# Altium schematic symbol library WE-LHMI.SchLib: 193 symbols (part 4 of 4)
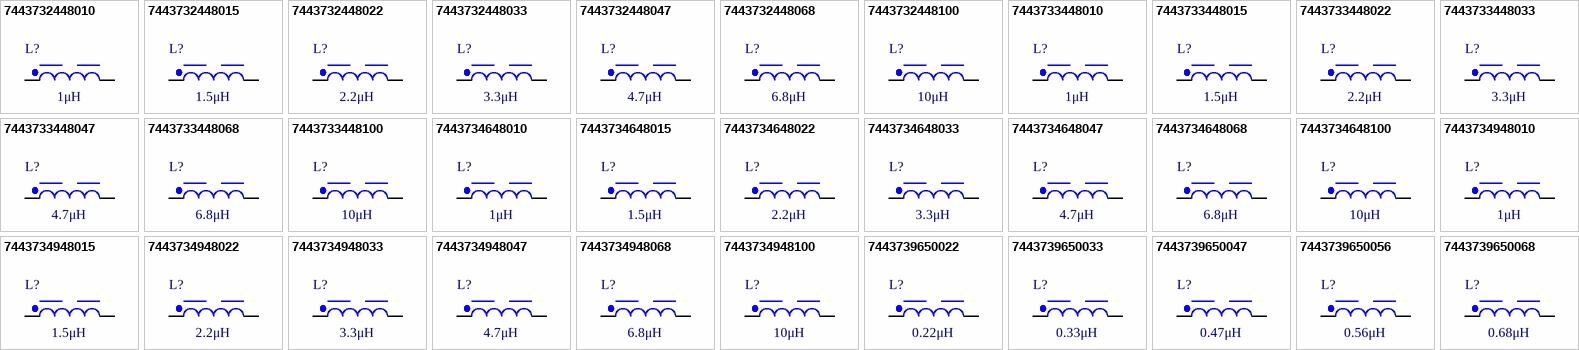
[diagram p7: symbols 7443732448010 to 7443739650068]

## 7443732448100
designator L?, comment 10μH
WE-LHMI SMT Power Inductor, size 4020 HT, 10μH, 2.4A, 243mΩ; Manufacturer Part Number: 7443732448100; Manufacturer: Wurth Elektronik; Case/Size Code: 4020 HT; Saturation Current @ 10%: 1A; Self Resonant Frequency: 16MHz; Category: Power Inductors; Match Code: WE-LHMI; ComponentLink1Description: Website Link; ComponentLink1URL: https://www.we-online.com/redexpert/article/7443732448100?ad; ComponentLink2Description: Datasheet Link; ComponentLink2URL: https://www.we-online.com/redexpert/spec/7443732448100?ad; Mount: Surface Mount; Min Operating Temperature: -55°C; Max Operating Temperature: 150°C; Packaging: Tape and Reel; Length: 4.45mm; Width: 4.06mm; Height: 1.8mm; DC Resistance Max: 243mΩ; Inductance: 10μH; Performance Rated Current: 2.4A; Saturation Current @ 30%: 2.4A
footprint WE-LHMI_4020 HT
simulation model 4020HT_7443732448100_10u
pins: 1, 2

## 7443733448010
designator L?, comment 1μH
WE-LHMI SMT Power Inductor, size 5020 HT, 1μH, 9.5A, 17.5mΩ; Manufacturer Part Number: 7443733448010; Manufacturer: Wurth Elektronik; Case/Size Code: 5020 HT; Saturation Current @ 10%: 5.4A; Saturation Current @ 30%: 12A; Self Resonant Frequency: 62MHz; Category: Power Inductors; Match Code: WE-LHMI; ComponentLink1Description: Website Link; ComponentLink1URL: https://www.we-online.com/redexpert/article/7443733448010?ad; ComponentLink2Description: Datasheet Link; ComponentLink2URL: https://www.we-online.com/redexpert/spec/7443733448010?ad; Mount: Surface Mount; Min Operating Temperature: -55°C; Max Operating Temperature: 150°C; Packaging: Tape and Reel; Length: 5.7mm; Width: 5.2mm; Height: 1.8mm; DC Resistance Max: 17.5mΩ; Inductance: 1μH; Performance Rated Current: 9.5A
footprint WE-LHMI_5020 HT
simulation model 5020HT_7443733448010_1u
pins: 1, 2

## 7443733448015
designator L?, comment 1.5μH
WE-LHMI SMT Power Inductor, size 5020 HT, 1.5μH, 5.7A, 43mΩ; Manufacturer Part Number: 7443733448015; Manufacturer: Wurth Elektronik; Case/Size Code: 5020 HT; Saturation Current @ 10%: 4.2A; Saturation Current @ 30%: 9.5A; Self Resonant Frequency: 54MHz; Category: Power Inductors; Match Code: WE-LHMI; ComponentLink1Description: Website Link; ComponentLink1URL: https://www.we-online.com/redexpert/article/7443733448015?ad; ComponentLink2Description: Datasheet Link; ComponentLink2URL: https://www.we-online.com/redexpert/spec/7443733448015?ad; Mount: Surface Mount; Min Operating Temperature: -55°C; Max Operating Temperature: 150°C; Packaging: Tape and Reel; Length: 5.7mm; Width: 5.2mm; Height: 1.8mm; DC Resistance Max: 43mΩ; Inductance: 1.5μH; Performance Rated Current: 5.7A
footprint WE-LHMI_5020 HT
simulation model 5020HT_7443733448015_1.5u
pins: 1, 2

## 7443733448022
designator L?, comment 2.2μH
WE-LHMI SMT Power Inductor, size 5020 HT, 2.2μH, 6A, 38mΩ; Manufacturer Part Number: 7443733448022; Manufacturer: Wurth Elektronik; Case/Size Code: 5020 HT; Saturation Current @ 10%: 3A; Saturation Current @ 30%: 6.7A; Self Resonant Frequency: 40MHz; Category: Power Inductors; Match Code: WE-LHMI; ComponentLink1Description: Website Link; ComponentLink1URL: https://www.we-online.com/redexpert/article/7443733448022?ad; ComponentLink2Description: Datasheet Link; ComponentLink2URL: https://www.we-online.com/redexpert/spec/7443733448022?ad; Mount: Surface Mount; Min Operating Temperature: -55°C; Max Operating Temperature: 150°C; Packaging: Tape and Reel; Length: 5.7mm; Width: 5.2mm; Height: 1.8mm; DC Resistance Max: 38mΩ; Inductance: 2.2μH; Performance Rated Current: 6A
footprint WE-LHMI_5020 HT
simulation model 5020HT_7443733448022_2.2u
pins: 1, 2

## 7443733448033
designator L?, comment 3.3μH
WE-LHMI SMT Power Inductor, size 5020 HT, 3.3μH, 4.9A, 60mΩ; Manufacturer Part Number: 7443733448033; Manufacturer: Wurth Elektronik; Case/Size Code: 5020 HT; Saturation Current @ 10%: 2.8A; Saturation Current @ 30%: 6.5A; Self Resonant Frequency: 36MHz; Category: Power Inductors; Match Code: WE-LHMI; ComponentLink1Description: Website Link; ComponentLink1URL: https://www.we-online.com/redexpert/article/7443733448033?ad; ComponentLink2Description: Datasheet Link; ComponentLink2URL: https://www.we-online.com/redexpert/spec/7443733448033?ad; Mount: Surface Mount; Min Operating Temperature: -55°C; Max Operating Temperature: 150°C; Packaging: Tape and Reel; Length: 5.7mm; Width: 5.2mm; Height: 1.8mm; DC Resistance Max: 60mΩ; Inductance: 3.3μH; Performance Rated Current: 4.9A
footprint WE-LHMI_5020 HT
simulation model 5020HT_7443733448033_3.3u
pins: 1, 2

## 7443733448047
designator L?, comment 4.7μH
WE-LHMI SMT Power Inductor, size 5020 HT, 4.7μH, 3.6A, 88mΩ; Manufacturer Part Number: 7443733448047; Manufacturer: Wurth Elektronik; Case/Size Code: 5020 HT; Saturation Current @ 10%: 2.6A; Saturation Current @ 30%: 5.8A; Self Resonant Frequency: 30MHz; Category: Power Inductors; Match Code: WE-LHMI; ComponentLink1Description: Website Link; ComponentLink1URL: https://www.we-online.com/redexpert/article/7443733448047?ad; ComponentLink2Description: Datasheet Link; ComponentLink2URL: https://www.we-online.com/redexpert/spec/7443733448047?ad; Mount: Surface Mount; Min Operating Temperature: -55°C; Max Operating Temperature: 150°C; Packaging: Tape and Reel; Length: 5.7mm; Width: 5.2mm; Height: 1.8mm; DC Resistance Max: 88mΩ; Inductance: 4.7μH; Performance Rated Current: 3.6A
footprint WE-LHMI_5020 HT
simulation model 5020HT_7443733448047_4.7u
pins: 1, 2

## 7443733448068
designator L?, comment 6.8μH
WE-LHMI SMT Power Inductor, size 5020 HT, 6.8μH, 3.5A, 159mΩ; Manufacturer Part Number: 7443733448068; Manufacturer: Wurth Elektronik; Case/Size Code: 5020 HT; Saturation Current @ 10%: 1.9A; Saturation Current @ 30%: 4.5A; Self Resonant Frequency: 26MHz; Category: Power Inductors; Match Code: WE-LHMI; ComponentLink1Description: Website Link; ComponentLink1URL: https://www.we-online.com/redexpert/article/7443733448068?ad; ComponentLink2Description: Datasheet Link; ComponentLink2URL: https://www.we-online.com/redexpert/spec/7443733448068?ad; Mount: Surface Mount; Min Operating Temperature: -55°C; Max Operating Temperature: 150°C; Packaging: Tape and Reel; Length: 5.7mm; Width: 5.2mm; Height: 1.8mm; DC Resistance Max: 159mΩ; Inductance: 6.8μH; Performance Rated Current: 3.5A
footprint WE-LHMI_5020 HT
simulation model 5020HT_7443733448068_6.8u
pins: 1, 2

## 7443733448100
designator L?, comment 10μH
WE-LHMI SMT Power Inductor, size 5020 HT, 10μH, 2.6A, 230mΩ; Manufacturer Part Number: 7443733448100; Manufacturer: Wurth Elektronik; Case/Size Code: 5020 HT; Saturation Current @ 10%: 1.2A; Saturation Current @ 30%: 3A; Self Resonant Frequency: 20MHz; Category: Power Inductors; Match Code: WE-LHMI; ComponentLink1Description: Website Link; ComponentLink1URL: https://www.we-online.com/redexpert/article/7443733448100?ad; ComponentLink2Description: Datasheet Link; ComponentLink2URL: https://www.we-online.com/redexpert/spec/7443733448100?ad; Mount: Surface Mount; Min Operating Temperature: -55°C; Max Operating Temperature: 150°C; Packaging: Tape and Reel; Length: 5.7mm; Width: 5.2mm; Height: 1.8mm; DC Resistance Max: 230mΩ; Inductance: 10μH; Performance Rated Current: 2.6A
footprint WE-LHMI_5020 HT
simulation model 5020HT_7443733448100_10u
pins: 1, 2

## 7443734648010
designator L?, comment 1μH
WE-LHMI SMT Power Inductor, size 7030 HT, 1μH, 13.5A, 7.4mΩ; Manufacturer Part Number: 7443734648010; Manufacturer: Wurth Elektronik; Case/Size Code: 7030 HT; Saturation Current @ 10%: 8.5A; Saturation Current @ 30%: 18.5A; Self Resonant Frequency: 53MHz; Category: Power Inductors; Match Code: WE-LHMI; ComponentLink1Description: Website Link; ComponentLink1URL: https://www.we-online.com/redexpert/article/7443734648010?ad; ComponentLink2Description: Datasheet Link; ComponentLink2URL: https://www.we-online.com/redexpert/spec/7443734648010?ad; Mount: Surface Mount; Min Operating Temperature: -55°C; Max Operating Temperature: 150°C; Packaging: Tape and Reel; Length: 7.3mm; Width: 6.6mm; Height: 2.8mm; DC Resistance Max: 7.4mΩ; Inductance: 1μH; Performance Rated Current: 13.5A
footprint WE-LHMI_7030 HT
simulation model 7030HT_7443734648010_1u
pins: 1, 2

## 7443734648015
designator L?, comment 1.5μH
WE-LHMI SMT Power Inductor, size 7030 HT, 1.5μH, 11.8A, 12.1mΩ; Manufacturer Part Number: 7443734648015; Manufacturer: Wurth Elektronik; Case/Size Code: 7030 HT; Saturation Current @ 10%: 8A; Saturation Current @ 30%: 17A; Self Resonant Frequency: 44MHz; Category: Power Inductors; Match Code: WE-LHMI; ComponentLink1Description: Website Link; ComponentLink1URL: https://www.we-online.com/redexpert/article/7443734648015?ad; ComponentLink2Description: Datasheet Link; ComponentLink2URL: https://www.we-online.com/redexpert/spec/7443734648015?ad; Mount: Surface Mount; Min Operating Temperature: -55°C; Max Operating Temperature: 150°C; Packaging: Tape and Reel; Length: 7.3mm; Width: 6.6mm; Height: 2.8mm; DC Resistance Max: 12.1mΩ; Inductance: 1.5μH; Performance Rated Current: 11.8A
footprint WE-LHMI_7030 HT
simulation model 7030HT_7443734648015_1.5u
pins: 1, 2

## 7443734648022
designator L?, comment 2.2μH
WE-LHMI SMT Power Inductor, size 7030 HT, 2.2μH, 9.7A, 17mΩ; Manufacturer Part Number: 7443734648022; Manufacturer: Wurth Elektronik; Case/Size Code: 7030 HT; Saturation Current @ 10%: 6.8A; Saturation Current @ 30%: 14.7A; Self Resonant Frequency: 34MHz; Category: Power Inductors; Match Code: WE-LHMI; ComponentLink1Description: Website Link; ComponentLink1URL: https://www.we-online.com/redexpert/article/7443734648022?ad; ComponentLink2Description: Datasheet Link; ComponentLink2URL: https://www.we-online.com/redexpert/spec/7443734648022?ad; Mount: Surface Mount; Min Operating Temperature: -55°C; Max Operating Temperature: 150°C; Packaging: Tape and Reel; Length: 7.3mm; Width: 6.6mm; Height: 2.8mm; DC Resistance Max: 17mΩ; Inductance: 2.2μH; Performance Rated Current: 9.7A
footprint WE-LHMI_7030 HT
simulation model 7030HT_7443734648022_2.2u
pins: 1, 2

## 7443734648033
designator L?, comment 3.3μH
WE-LHMI SMT Power Inductor, size 7030 HT, 3.3μH, 7.6A, 22mΩ; Manufacturer Part Number: 7443734648033; Manufacturer: Wurth Elektronik; Case/Size Code: 7030 HT; Saturation Current @ 10%: 5.6A; Saturation Current @ 30%: 10.8A; Self Resonant Frequency: 28MHz; Category: Power Inductors; Match Code: WE-LHMI; ComponentLink1Description: Website Link; ComponentLink1URL: https://www.we-online.com/redexpert/article/7443734648033?ad; ComponentLink2Description: Datasheet Link; ComponentLink2URL: https://www.we-online.com/redexpert/spec/7443734648033?ad; Mount: Surface Mount; Min Operating Temperature: -55°C; Max Operating Temperature: 150°C; Packaging: Tape and Reel; Length: 7.3mm; Width: 6.6mm; Height: 2.8mm; DC Resistance Max: 22mΩ; Inductance: 3.3μH; Performance Rated Current: 7.6A
footprint WE-LHMI_7030 HT
simulation model 7030HT_7443734648033_3.3u
pins: 1, 2

## 7443734648047
designator L?, comment 4.7μH
WE-LHMI SMT Power Inductor, size 7030 HT, 4.7μH, 6.1A, 40mΩ; Manufacturer Part Number: 7443734648047; Manufacturer: Wurth Elektronik; Case/Size Code: 7030 HT; Saturation Current @ 10%: 4.4A; Saturation Current @ 30%: 9.8A; Self Resonant Frequency: 24MHz; Category: Power Inductors; Match Code: WE-LHMI; ComponentLink1Description: Website Link; ComponentLink1URL: https://www.we-online.com/redexpert/article/7443734648047?ad; ComponentLink2Description: Datasheet Link; ComponentLink2URL: https://www.we-online.com/redexpert/spec/7443734648047?ad; Mount: Surface Mount; Min Operating Temperature: -55°C; Max Operating Temperature: 150°C; Packaging: Tape and Reel; Length: 7.3mm; Width: 6.6mm; Height: 2.8mm; DC Resistance Max: 40mΩ; Inductance: 4.7μH; Performance Rated Current: 6.1A
footprint WE-LHMI_7030 HT
simulation model 7030HT_7443734648047_4.7u
pins: 1, 2

## 7443734648068
designator L?, comment 6.8μH
WE-LHMI SMT Power Inductor, size 7030 HT, 6.8μH, 5.2A, 48mΩ; Manufacturer Part Number: 7443734648068; Manufacturer: Wurth Elektronik; Case/Size Code: 7030 HT; Saturation Current @ 10%: 3.5A; Saturation Current @ 30%: 7.6A; Self Resonant Frequency: 19MHz; Category: Power Inductors; Match Code: WE-LHMI; ComponentLink1Description: Website Link; ComponentLink1URL: https://www.we-online.com/redexpert/article/7443734648068?ad; ComponentLink2Description: Datasheet Link; ComponentLink2URL: https://www.we-online.com/redexpert/spec/7443734648068?ad; Mount: Surface Mount; Min Operating Temperature: -55°C; Max Operating Temperature: 150°C; Packaging: Tape and Reel; Length: 7.3mm; Width: 6.6mm; Height: 2.8mm; DC Resistance Max: 48mΩ; Inductance: 6.8μH; Performance Rated Current: 5.2A
footprint WE-LHMI_7030 HT
simulation model 7030HT_7443734648068_6.8u
pins: 1, 2

## 7443734648100
designator L?, comment 10μH
WE-LHMI SMT Power Inductor, size 7030 HT, 10μH, 4.3A, 78mΩ; Manufacturer Part Number: 7443734648100; Manufacturer: Wurth Elektronik; Case/Size Code: 7030 HT; Saturation Current @ 10%: 2.8A; Saturation Current @ 30%: 6A; Self Resonant Frequency: 15MHz; Category: Power Inductors; Match Code: WE-LHMI; ComponentLink1Description: Website Link; ComponentLink1URL: https://www.we-online.com/redexpert/article/7443734648100?ad; ComponentLink2Description: Datasheet Link; ComponentLink2URL: https://www.we-online.com/redexpert/spec/7443734648100?ad; Mount: Surface Mount; Min Operating Temperature: -55°C; Max Operating Temperature: 150°C; Packaging: Tape and Reel; Length: 7.3mm; Width: 6.6mm; Height: 2.8mm; DC Resistance Max: 78mΩ; Inductance: 10μH; Performance Rated Current: 4.3A
footprint WE-LHMI_7030 HT
simulation model 7030HT_7443734648100_10u
pins: 1, 2

## 7443734948010
designator L?, comment 1μH
WE-LHMI SMT Power Inductor, size 7050 HT, 1μH, 18A, 6.5mΩ; Manufacturer Part Number: 7443734948010; Manufacturer: Wurth Elektronik; Case/Size Code: 7050 HT; Saturation Current @ 10%: 8.5A; Saturation Current @ 30%: 17.8A; Self Resonant Frequency: 44MHz; Category: Power Inductors; Match Code: WE-LHMI; ComponentLink1Description: Website Link; ComponentLink1URL: https://www.we-online.com/redexpert/article/7443734948010?ad; ComponentLink2Description: Datasheet Link; ComponentLink2URL: https://www.we-online.com/redexpert/spec/7443734948010?ad; Mount: Surface Mount; Min Operating Temperature: -55°C; Max Operating Temperature: 150°C; Packaging: Tape and Reel; Length: 7.3mm; Width: 6.6mm; Height: 4.8mm; DC Resistance Max: 6.5mΩ; Inductance: 1μH; Performance Rated Current: 18A
footprint WE-LHMI_7050 HT
simulation model 7050HT_7443734948010_1u
pins: 1, 2

## 7443734948015
designator L?, comment 1.5μH
WE-LHMI SMT Power Inductor, size 7050 HT, 1.5μH, 15.8A, 8.5mΩ; Manufacturer Part Number: 7443734948015; Manufacturer: Wurth Elektronik; Case/Size Code: 7050 HT; Saturation Current @ 10%: 7.5A; Saturation Current @ 30%: 15.5A; Self Resonant Frequency: 38MHz; Category: Power Inductors; Match Code: WE-LHMI; ComponentLink1Description: Website Link; ComponentLink1URL: https://www.we-online.com/redexpert/article/7443734948015?ad; ComponentLink2Description: Datasheet Link; ComponentLink2URL: https://www.we-online.com/redexpert/spec/7443734948015?ad; Mount: Surface Mount; Min Operating Temperature: -55°C; Max Operating Temperature: 150°C; Packaging: Tape and Reel; Length: 7.3mm; Width: 6.6mm; Height: 4.8mm; DC Resistance Max: 8.5mΩ; Inductance: 1.5μH; Performance Rated Current: 15.8A
footprint WE-LHMI_7050 HT
simulation model 7050HT_7443734948015_1.5u
pins: 1, 2

## 7443734948022
designator L?, comment 2.2μH
WE-LHMI SMT Power Inductor, size 7050 HT, 2.2μH, 12.3A, 14mΩ; Manufacturer Part Number: 7443734948022; Manufacturer: Wurth Elektronik; Case/Size Code: 7050 HT; Saturation Current @ 10%: 6.5A; Saturation Current @ 30%: 12.8A; Self Resonant Frequency: 31MHz; Category: Power Inductors; Match Code: WE-LHMI; ComponentLink1Description: Website Link; ComponentLink1URL: https://www.we-online.com/redexpert/article/7443734948022?ad; ComponentLink2Description: Datasheet Link; ComponentLink2URL: https://www.we-online.com/redexpert/spec/7443734948022?ad; Mount: Surface Mount; Min Operating Temperature: -55°C; Max Operating Temperature: 150°C; Packaging: Tape and Reel; Length: 7.3mm; Width: 6.6mm; Height: 4.8mm; DC Resistance Max: 14mΩ; Inductance: 2.2μH; Performance Rated Current: 12.3A
footprint WE-LHMI_7050 HT
simulation model 7050HT_7443734948022_2.2u
pins: 1, 2

## 7443734948033
designator L?, comment 3.3μH
WE-LHMI SMT Power Inductor, size 7050 HT, 3.3μH, 10.6A, 23mΩ; Manufacturer Part Number: 7443734948033; Manufacturer: Wurth Elektronik; Case/Size Code: 7050 HT; Saturation Current @ 10%: 5.6A; Saturation Current @ 30%: 11.8A; Self Resonant Frequency: 26MHz; Category: Power Inductors; Match Code: WE-LHMI; ComponentLink1Description: Website Link; ComponentLink1URL: https://www.we-online.com/redexpert/article/7443734948033?ad; ComponentLink2Description: Datasheet Link; ComponentLink2URL: https://www.we-online.com/redexpert/spec/7443734948033?ad; Mount: Surface Mount; Min Operating Temperature: -55°C; Max Operating Temperature: 150°C; Packaging: Tape and Reel; Length: 7.3mm; Width: 6.6mm; Height: 4.8mm; DC Resistance Max: 23mΩ; Inductance: 3.3μH; Performance Rated Current: 10.6A
footprint WE-LHMI_7050 HT
simulation model 7050HT_7443734948033_3.3u
pins: 1, 2

## 7443734948047
designator L?, comment 4.7μH
WE-LHMI SMT Power Inductor, size 7050 HT, 4.7μH, 8.5A, 31mΩ; Manufacturer Part Number: 7443734948047; Manufacturer: Wurth Elektronik; Case/Size Code: 7050 HT; Saturation Current @ 10%: 5.2A; Saturation Current @ 30%: 11.4A; Self Resonant Frequency: 20MHz; Category: Power Inductors; Match Code: WE-LHMI; ComponentLink1Description: Website Link; ComponentLink1URL: https://www.we-online.com/redexpert/article/7443734948047?ad; ComponentLink2Description: Datasheet Link; ComponentLink2URL: https://www.we-online.com/redexpert/spec/7443734948047?ad; Mount: Surface Mount; Min Operating Temperature: -55°C; Max Operating Temperature: 150°C; Packaging: Tape and Reel; Length: 7.3mm; Width: 6.6mm; Height: 4.8mm; DC Resistance Max: 31mΩ; Inductance: 4.7μH; Performance Rated Current: 8.5A
footprint WE-LHMI_7050 HT
simulation model 7050HT_7443734948047_4.7u
pins: 1, 2

## 7443734948068
designator L?, comment 6.8μH
WE-LHMI SMT Power Inductor, size 7050 HT, 6.8μH, 7.5A, 34mΩ; Manufacturer Part Number: 7443734948068; Manufacturer: Wurth Elektronik; Case/Size Code: 7050 HT; Saturation Current @ 10%: 4A; Saturation Current @ 30%: 8.4A; Self Resonant Frequency: 16MHz; Category: Power Inductors; Match Code: WE-LHMI; ComponentLink1Description: Website Link; ComponentLink1URL: https://www.we-online.com/redexpert/article/7443734948068?ad; ComponentLink2Description: Datasheet Link; ComponentLink2URL: https://www.we-online.com/redexpert/spec/7443734948068?ad; Mount: Surface Mount; Min Operating Temperature: -55°C; Max Operating Temperature: 150°C; Packaging: Tape and Reel; Length: 7.3mm; Width: 6.6mm; Height: 4.8mm; DC Resistance Max: 34mΩ; Inductance: 6.8μH; Performance Rated Current: 7.5A
footprint WE-LHMI_7050 HT
simulation model 7050HT_7443734948068_6.8u
pins: 1, 2

## 7443734948100
designator L?, comment 10μH
WE-LHMI SMT Power Inductor, size 7050 HT, 10μH, 6.6A, 50mΩ; Manufacturer Part Number: 7443734948100; Manufacturer: Wurth Elektronik; Case/Size Code: 7050 HT; Saturation Current @ 10%: 3.7A; Saturation Current @ 30%: 8A; Self Resonant Frequency: 12MHz; Category: Power Inductors; Match Code: WE-LHMI; ComponentLink1Description: Website Link; ComponentLink1URL: https://www.we-online.com/redexpert/article/7443734948100?ad; ComponentLink2Description: Datasheet Link; ComponentLink2URL: https://www.we-online.com/redexpert/spec/7443734948100?ad; Mount: Surface Mount; Min Operating Temperature: -55°C; Max Operating Temperature: 150°C; Packaging: Tape and Reel; Length: 7.3mm; Width: 6.6mm; Height: 4.8mm; DC Resistance Max: 50mΩ; Inductance: 10μH; Performance Rated Current: 6.6A
footprint WE-LHMI_7050 HT
simulation model 7050HT_7443734948100_10u
pins: 1, 2

## 7443739650022
designator L?, comment 0.22μH
WE-LHMI SMT Power Inductor, size 1365, 0.22μH, 54.9A, 0.6mΩ; Manufacturer Part Number: 7443739650022; Manufacturer: Wurth Elektronik; Case/Size Code: 1365; Saturation Current @ 10%: 81.5A; Saturation Current @ 30%: 120A; Self Resonant Frequency: 112.3MHz; Category: Power Inductors; Match Code: WE-LHMI; ComponentLink1Description: Website Link; ComponentLink1URL: https://www.we-online.com/redexpert/article/7443739650022?ad; ComponentLink2Description: Datasheet Link; ComponentLink2URL: https://www.we-online.com/redexpert/spec/7443739650022?ad; Mount: Surface Mount; Min Operating Temperature: -40°C; Max Operating Temperature: 125°C; Packaging: Tape and Reel; Length: 13.65mm; Width: 12.5mm; Height: 6.2mm; DC Resistance Max: 0.6mΩ; Inductance: 0.22μH; Performance Rated Current: 54.9A
footprint WE-LHMI_1365
simulation model 1365_7443739650022_0.22u
pins: 1, 2

## 7443739650033
designator L?, comment 0.33μH
WE-LHMI SMT Power Inductor, size 1365, 0.33μH, 49A, 0.8mΩ; Manufacturer Part Number: 7443739650033; Manufacturer: Wurth Elektronik; Case/Size Code: 1365; Saturation Current @ 10%: 57.5A; Saturation Current @ 30%: 108.6A; Self Resonant Frequency: 74.7MHz; Category: Power Inductors; Match Code: WE-LHMI; ComponentLink1Description: Website Link; ComponentLink1URL: https://www.we-online.com/redexpert/article/7443739650033?ad; ComponentLink2Description: Datasheet Link; ComponentLink2URL: https://www.we-online.com/redexpert/spec/7443739650033?ad; Mount: Surface Mount; Min Operating Temperature: -40°C; Max Operating Temperature: 125°C; Packaging: Tape and Reel; Length: 13.65mm; Width: 12.5mm; Height: 6.2mm; DC Resistance Max: 0.8mΩ; Inductance: 0.33μH; Performance Rated Current: 49A
footprint WE-LHMI_1365
simulation model 1365_7443739650033_0.33u
pins: 1, 2

## 7443739650047
designator L?, comment 0.47μH
WE-LHMI SMT Power Inductor, size 1365, 0.47μH, 40.7A, 1.2mΩ; Manufacturer Part Number: 7443739650047; Manufacturer: Wurth Elektronik; Case/Size Code: 1365; Saturation Current @ 10%: 49.7A; Saturation Current @ 30%: 99.4A; Self Resonant Frequency: 60MHz; Category: Power Inductors; Match Code: WE-LHMI; ComponentLink1Description: Website Link; ComponentLink1URL: https://www.we-online.com/redexpert/article/7443739650047?ad; ComponentLink2Description: Datasheet Link; ComponentLink2URL: https://www.we-online.com/redexpert/spec/7443739650047?ad; Mount: Surface Mount; Min Operating Temperature: -40°C; Max Operating Temperature: 125°C; Packaging: Tape and Reel; Length: 13.65mm; Width: 12.5mm; Height: 6.2mm; DC Resistance Max: 1.2mΩ; Inductance: 0.47μH; Performance Rated Current: 40.7A
footprint WE-LHMI_1365
simulation model 1365_7443739650047_0.47u
pins: 1, 2

## 7443739650056
designator L?, comment 0.56μH
WE-LHMI SMT Power Inductor, size 1365, 0.56μH, 37.1A, 1.2mΩ; Manufacturer Part Number: 7443739650056; Manufacturer: Wurth Elektronik; Case/Size Code: 1365; Saturation Current @ 10%: 36.3A; Saturation Current @ 30%: 68.3A; Self Resonant Frequency: 51.7MHz; Category: Power Inductors; Match Code: WE-LHMI; ComponentLink1Description: Website Link; ComponentLink1URL: https://www.we-online.com/redexpert/article/7443739650056?ad; ComponentLink2Description: Datasheet Link; ComponentLink2URL: https://www.we-online.com/redexpert/spec/7443739650056?ad; Mount: Surface Mount; Min Operating Temperature: -40°C; Max Operating Temperature: 125°C; Packaging: Tape and Reel; Length: 13.65mm; Width: 12.5mm; Height: 6.2mm; DC Resistance Max: 1.2mΩ; Inductance: 0.56μH; Performance Rated Current: 37.1A
footprint WE-LHMI_1365
simulation model 1365_7443739650056_0.56u
pins: 1, 2

## 7443739650068
designator L?, comment 0.68μH
WE-LHMI SMT Power Inductor, size 1365, 0.68μH, 35.6A, 1.5mΩ; Manufacturer Part Number: 7443739650068; Manufacturer: Wurth Elektronik; Case/Size Code: 1365; Saturation Current @ 10%: 35.7A; Saturation Current @ 30%: 67.4A; Self Resonant Frequency: 51.1MHz; Category: Power Inductors; Match Code: WE-LHMI; ComponentLink1Description: Website Link; ComponentLink1URL: https://www.we-online.com/redexpert/article/7443739650068?ad; ComponentLink2Description: Datasheet Link; ComponentLink2URL: https://www.we-online.com/redexpert/spec/7443739650068?ad; Mount: Surface Mount; Min Operating Temperature: -40°C; Max Operating Temperature: 125°C; Packaging: Tape and Reel; Length: 13.65mm; Width: 12.5mm; Height: 6.2mm; DC Resistance Max: 1.5mΩ; Inductance: 0.68μH; Performance Rated Current: 35.6A
footprint WE-LHMI_1365
simulation model 1365_7443739650068_0.68u
pins: 1, 2